# Altium footprint library OSC-QSMD12.3x4.5x4.2.PcbLib: 1 footprints
Each footprint in its own frame and in the unit in brackets; x right, y up, seen from the top. Pads: shape width x height; smd on the part's side, far side on the other; paste and mask are expansions set on the pad; w line width, h text height; cw(c..) or ccw(c..) is an arc to the next point about the centre after c.
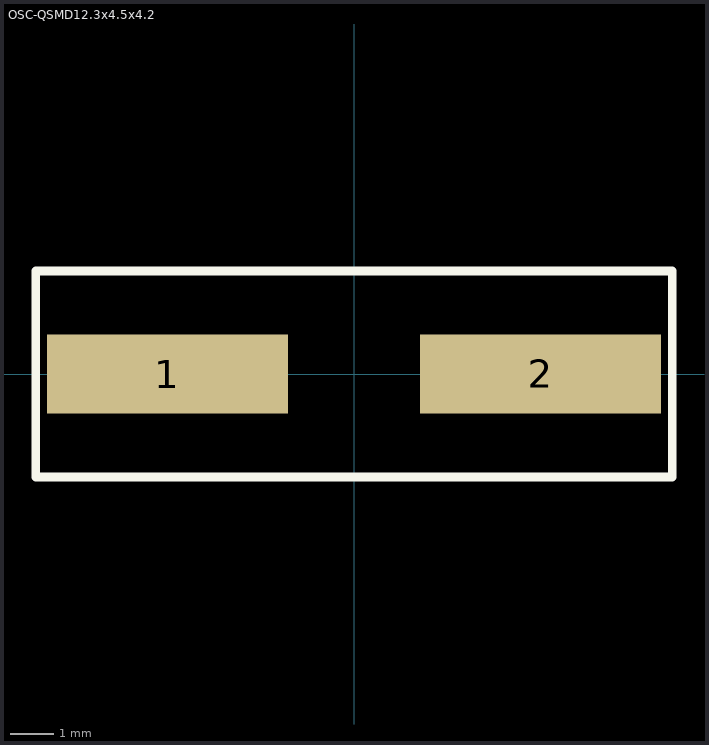
[diagram p0: the footprint, top view; thin cyan lines are the x and y axes]

## OSC-QSMD12.3x4.5x4.2 [mm]
pads (2):
  rect 5.5x1.8 smd: 1(-4.25,0) 2(4.25,0)
Top Overlay:
  lines w0.2: -7.25,-2.35 -7.25,2.35 7.25,2.35 7.25,-2.35 -7.25,-2.35
Top Assembly:
  lines w0.1: -7.25,-2.35 7.25,-2.35 7.25,2.35 0.15,2.35 -7.25,2.35 -7.25,-2.35
  text "'.Designator'" at -0.675,-0.375 h0.8
3D body "User Library-HC49US.STEP": height 4.2, standoff 0, extent -6.35,-2.35 6.35,2.35